# Altium footprint library IND_106-6.PcbLib: 1 footprints
Each footprint in its own frame and in the unit in brackets; x right, y up, seen from the top. Pads: shape width x height; smd on the part's side, far side on the other; paste and mask are expansions set on the pad; w line width, h text height; cw(c..) or ccw(c..) is an arc to the next point about the centre after c.
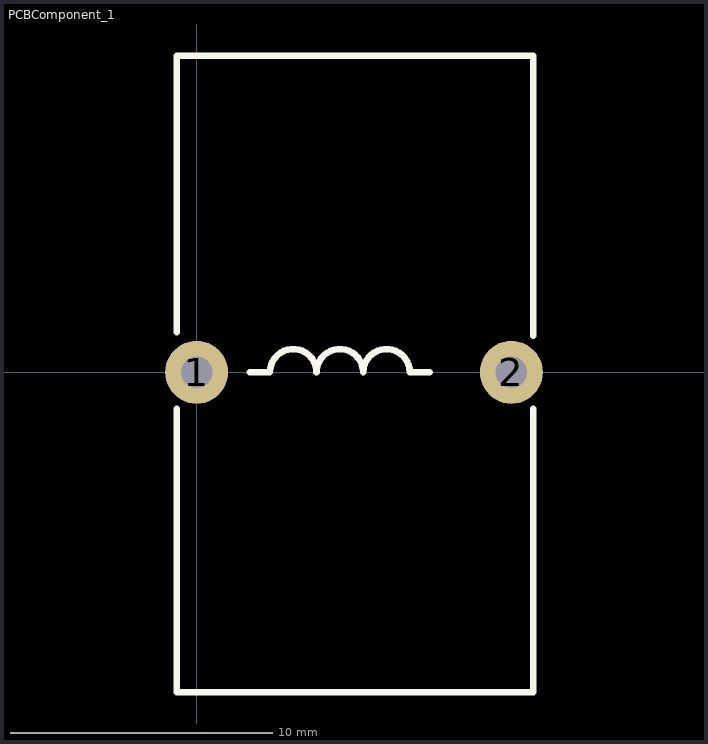
[diagram p0: the footprint, top view; thin cyan lines are the x and y axes]

## PCBComponent_1 [mm]
pads (2):
  round 2.4 hole 1.2: 1(0,0) 2(12,0)
Top Overlay:
  lines w0.254: -0.762,-1.397 -0.762,-12.192 12.827,-12.192 12.827,-1.397 ; -0.762,1.524 -0.762,12.065 12.827,12.065 12.827,1.397 ; 2.032,0 2.794,0 cw(c3.683,0) 4.572,0 cw(c5.461,0) 6.35,0 cw(c7.239,0) 8.128,0 8.89,0
3D body "67385.stp": height 24.86, standoff -11.56, extent -0.5,-11.862 12.556,11.862